# EAGLE library part ACS780 (library kiks-ic)
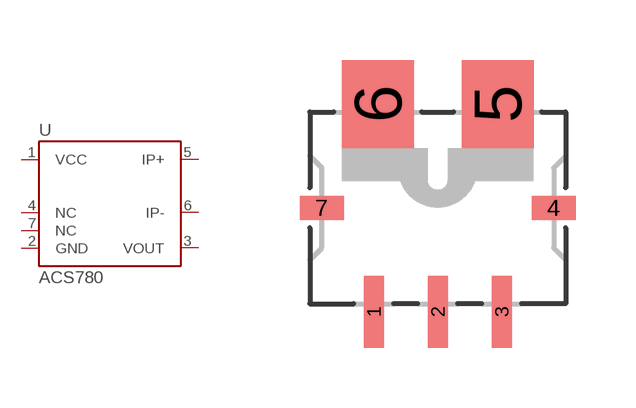
[diagram p20: symbol with the pads of PSOF7; footprint PSOF7]

Designator prefix U

## ACS780  [PSOF7]
1  VCC  in
2  GND  in
3  VOUT  out
4  NC  pas
5  IP+
6  IP-
7  NC  pas

## Footprint PSOF7 (pad centres in mm)
smd 0.5 x 1.8: 1 -1.6,-2.6; 2 0,-2.6; 3 1.6,-2.6
smd 1.1 x 0.6: 4 2.9,0; 7 -2.9,0
smd 1.8 x 2.2: 5 1.5,2.6; 6 -1.5,2.6